# EAGLE library part DISPLAY-4511 (library tidyeagle)
4511 BCD to 7 Segment LED Display Decoder Datasheet: Texas Instruments CD4511B <http://www.ti.com/lit/ds/symlink/cd4511b.pdf> This 7 Segment Driver is designed for Common Cathode displays. Application Notes: Supply: -0.5V - 20V Pull TEST low to turn on all segments, regardless of the input state. Pull BLANK low to turn off all segments, regardless of the input state. Pull LATCH high and then return to low to 'latch' the current output state. Momentarily draw high again to update. At BCD inputs greater than 9 (1001) output is blanked.
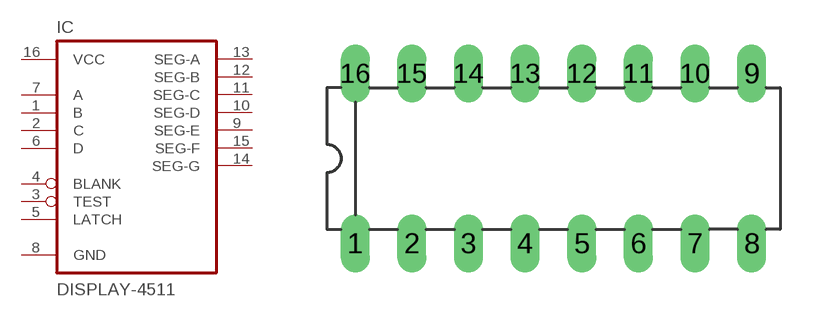
[diagram p31: symbol with the pads of DIL16-3; footprint DIL16-3]

Designator prefix IC

## DISPLAY-4511-DIL16  [DIL16-3]
1  B
2  C
3  TEST
4  BLANK
5  LATCH
6  D
7  A
8  GND  sup
9  SEG-E  out
10  SEG-D  out
11  SEG-C  out
12  SEG-B  out
13  SEG-A  out
14  SEG-G  out
15  SEG-F  out
16  VCC  sup

## Footprint DIL16-3 (pad centres in mm)
drill 0.8 long: 1 -8.89,-3.81; 2 -6.35,-3.81; 3 -3.81,-3.81; 4 -1.27,-3.81; 5 1.27,-3.81; 6 3.81,-3.81; 7 6.35,-3.81; 8 8.89,-3.81; 9 8.89,3.81; 10 6.35,3.81; 11 3.81,3.81; 12 1.27,3.81; 13 -1.27,3.81; 14 -3.81,3.81; 15 -6.35,3.81; 16 -8.89,3.81